# EAGLE library part AUIRS2191S (library International_Rectifier_By_element14_Batch_1)
HIGH AND LOW SIDE DRIVER
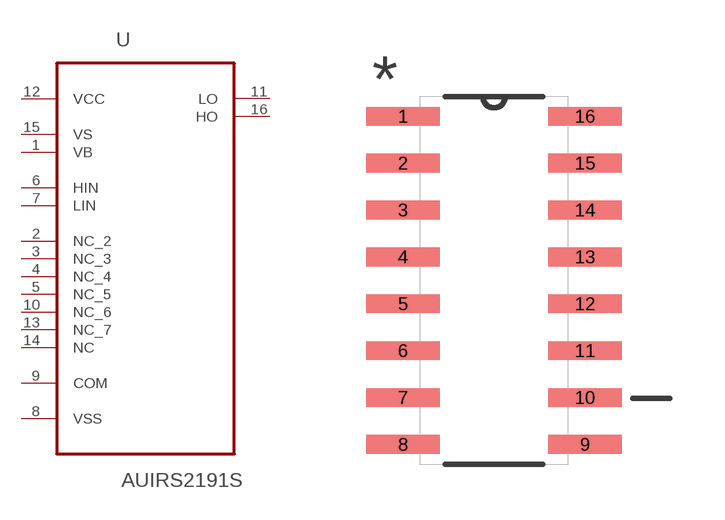
[diagram p18: symbol with the pads of SOIC127P600X175-16N; footprint SOIC127P600X175-16N]

Designator prefix U

## AUIRS2191S (MPN: AUIRS2191S; OC_FARNELL: 1866063; OC_NEWARK: 39T4042; PACKAGE: SOIC-16; SUPPLIER: International Rectifier)  [SOIC127P600X175-16N]
1  VB  pwr
2  NC_2  nc
3  NC_3  nc
4  NC_4  nc
5  NC_5  nc
6  HIN  in
7  LIN  in
8  VSS  pwr
9  COM  pas
10  NC_6  nc
11  LO  out
12  VCC  pwr
13  NC_7  nc
14  NC  nc
15  VS  pwr
16  HO  out

## Footprint SOIC127P600X175-16N (pad centres in mm)
smd 1.981 x 0.508: 1 -2.464,4.445; 2 -2.464,3.175; 3 -2.464,1.905; 4 -2.464,0.635; 5 -2.464,-0.635; 6 -2.464,-1.905; 7 -2.464,-3.175; 8 -2.464,-4.445; 9 2.464,-4.445; 10 2.464,-3.175; 11 2.464,-1.905; 12 2.464,-0.635; 13 2.464,0.635; 14 2.464,1.905; 15 2.464,3.175; 16 2.464,4.445